# EAGLE library part DIP-ISOLATOR--5KV-4CH-TRANS(DIP16) (library Seeed-OPL-crystal-osctllator)
306060005
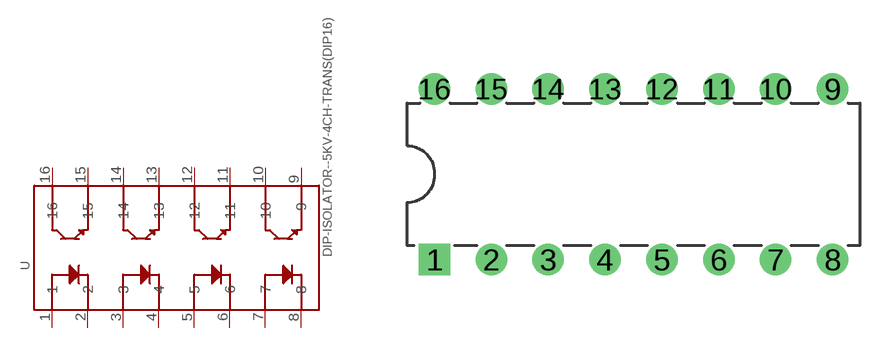
[diagram p0: symbol with the pads of DIP16-2.54-19.2X7.62MM; footprint DIP16-2.54-19.2X7.62MM]

Designator prefix U

## DIP-ISOLATOR--5KV-4CH-TRANS(DIP16) (MPN: LTV-846; VALUE: LTV-846)  [DIP16-2.54-19.2X7.62MM]
1  1
2  2
3  3
4  4
5  5
6  6
7  7
8  8
9  9
10  10
11  11
12  12
13  13
14  14
15  15
16  16

## Footprint DIP16-2.54-19.2X7.62MM (pad centres in mm)
drill 0.9 pad 1.4 square: 1 -8.89,-3.81
drill 0.9 pad 1.4: 2 -6.35,-3.81; 3 -3.81,-3.81; 4 -1.27,-3.81; 5 1.27,-3.81; 6 3.81,-3.81; 7 6.35,-3.81; 8 8.89,-3.81; 9 8.89,3.81; 10 6.35,3.81; 11 3.81,3.81; 12 1.27,3.81; 13 -1.27,3.81; 14 -3.81,3.81; 15 -6.35,3.81; 16 -8.89,3.81